# EAGLE library part THERMOCOUPLE-BOARD_STM32F042K4_V01 (library Thermocouple-board)
STM32F030K6, Cortex-M0, 32K Flash, 4K SRAM, 48MHz, LQFP32 0.8mm
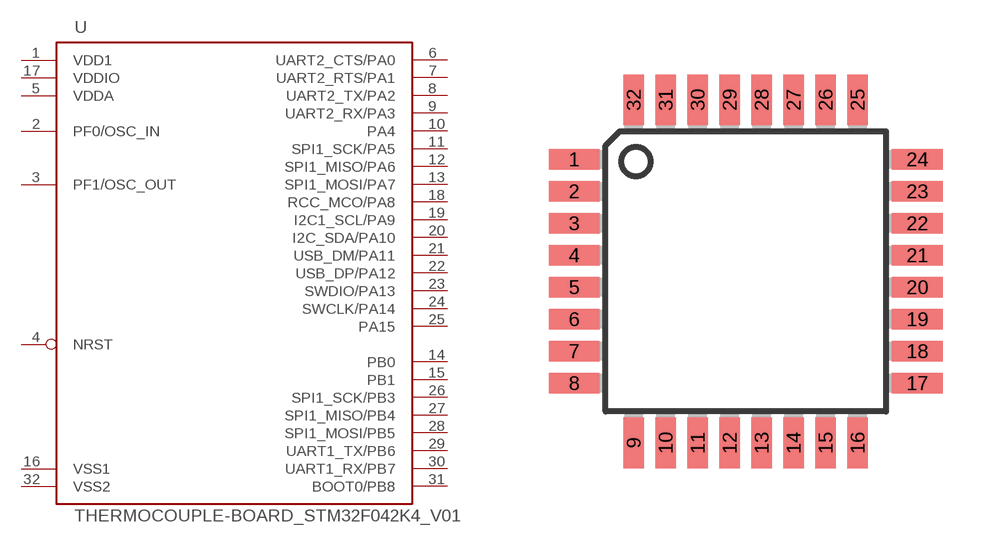
[diagram p4: symbol with the pads of THERMOCOUPLE-BOARD_TQFP32-0.8MM; footprint THERMOCOUPLE-BOARD_TQFP32-0.8MM]

Designator prefix U

## THERMOCOUPLE-BOARD_STM32F042K4_V01  [THERMOCOUPLE-BOARD_TQFP32-0.8MM]
1  VDD1
2  PF0/OSC_IN
3  PF1/OSC_OUT
4  NRST
5  VDDA
6  UART2_CTS/PA0
7  UART2_RTS/PA1
8  UART2_TX/PA2
9  UART2_RX/PA3
10  PA4
11  SPI1_SCK/PA5
12  SPI1_MISO/PA6
13  SPI1_MOSI/PA7
14  PB0
15  PB1
16  VSS1
17  VDDIO
18  RCC_MCO/PA8
19  I2C1_SCL/PA9
20  I2C_SDA/PA10
21  USB_DM/PA11
22  USB_DP/PA12
23  SWDIO/PA13
24  SWCLK/PA14
25  PA15
26  SPI1_SCK/PB3
27  SPI1_MISO/PB4
28  SPI1_MOSI/PB5
29  UART1_TX/PB6
30  UART1_RX/PB7
31  BOOT0/PB8
32  VSS2

## Footprint THERMOCOUPLE-BOARD_TQFP32-0.8MM (pad centres in mm)
Thin Plasic Quad Flat Package Grid 0.8 mm
smd 1.27 x 0.508: 1 -4.293,2.8; 2 -4.293,2; 3 -4.293,1.2; 4 -4.293,0.4; 5 -4.293,-0.4; 6 -4.293,-1.2; 7 -4.293,-2; 8 -4.293,-2.8; 17 4.293,-2.8; 18 4.293,-2; 19 4.293,-1.2; 20 4.293,-0.4; 21 4.293,0.4; 22 4.293,1.2; 23 4.293,2; 24 4.293,2.8
smd 0.508 x 1.27: 9 -2.8,-4.293; 10 -2,-4.293; 11 -1.2,-4.293; 12 -0.4,-4.293; 13 0.4,-4.293; 14 1.2,-4.293; 15 2,-4.293; 16 2.8,-4.293; 25 2.8,4.293; 26 2,4.293; 27 1.2,4.293; 28 0.4,4.293; 29 -0.4,4.293; 30 -1.2,4.293; 31 -2,4.293; 32 -2.8,4.293